# Altium schematic symbol library ST Microelectronics  Lib.SchLib: 2 symbols
Pins are listed as number, name and electrical type; pins without a type are passive.

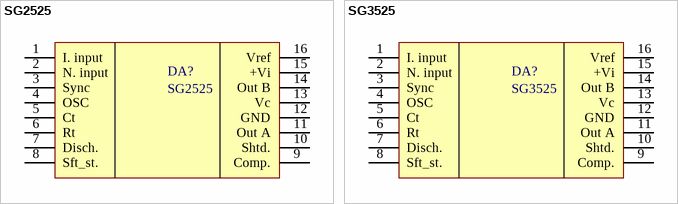
[diagram p0: symbols SG2525 to SG3525]

## SG2525
designator DA?
PWM modulator; Catalog: *; Catalog number: *; Value: *
pins: 1 I. input, 2 N. input, 3 Sync, 4 OSC, 5 Ct, 6 Rt, 7 Disch., 8 Sft_st., 9 Comp., 10 Shtd., 11 Out A, 12 GND (power), 13 Vc (power), 14 Out B, 15 +Vi, 16 Vref

## SG3525
designator DA?
PWM modulator; Catalog: *; Catalog number: *; Value: *
pins: 1 I. input, 2 N. input, 3 Sync, 4 OSC, 5 Ct, 6 Rt, 7 Disch., 8 Sft_st., 9 Comp., 10 Shtd., 11 Out A, 12 GND (power), 13 Vc (power), 14 Out B, 15 +Vi, 16 Vref